# Altium integrated library DSD_Aerobits_RPI4_OLED.IntLib: 62 symbols (part 2 of 2)
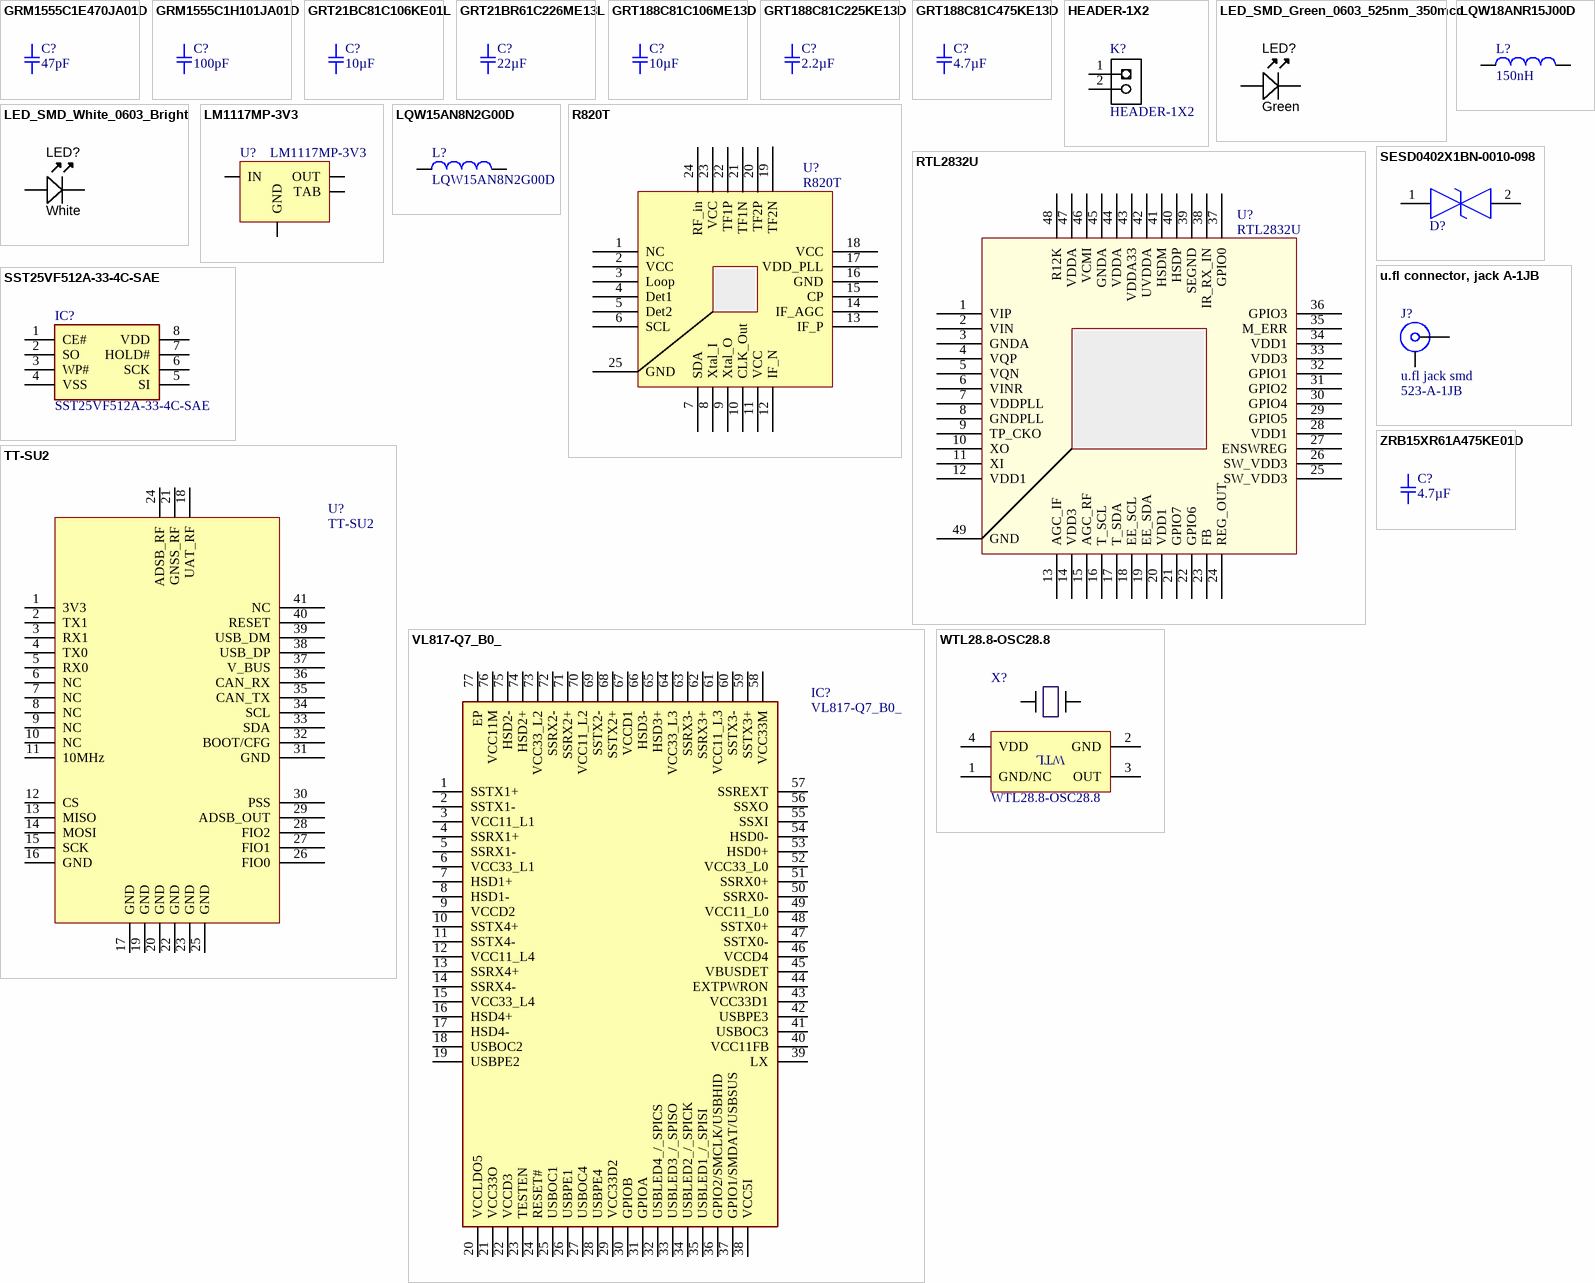
[diagram p2: symbols GRM1555C1E470JA01D to ZRB15XR61A475KE01D]

## u.fl connector, jack A-1JB
designator J?, comment u.fl jack smd  Supplier Part Number 1: 523-A-1JB
Manufacturer 1: Amphenol / Amphenol RF; Manufacturer Part Number 1: A-1JB; Connector Type: AMC Coaxial; Body Style: Straight Jack; Coaxial Termination: Solder; Impedance: 50ohm; Frequency Max: 6GHz; Supplier 1: Mouser; Stock 1: 19506; Pricing 1: 1=0.65, 10=0.596, 50=0.535, 100=0.51, 1000=0.365, 10000=0.351 (USD); Contact Material: Brass; Contact Plating: Gold; ComponentLink1URL: https://datasheet.ciiva.com/22652/689597-22652949.pdf; ComponentLink1Description: https://datasheet.ciiva.com/22652/689597-22652949.pdf; ComponentLink2URL: https://datasheet.ciiva.com/15172/getdatasheetpartid-168895-15172647.pdf; ComponentLink2Description: https://datasheet.ciiva.com/15172/getdatasheetpartid-168895-15172647.pdf; ComponentLink3URL: https://datasheet.ciiva.com/36526/2036357-36526267.pdf; ComponentLink3Description: https://datasheet.ciiva.com/36526/2036357-36526267.pdf; ComponentLink4URL: https://datasheet.ciiva.com/5175/ca-1jb-38743-5175829.pdf; ComponentLink4Description: https://datasheet.ciiva.com/5175/ca-1jb-38743-5175829.pdf; ComponentLink5URL: https://datasheet.ciiva.com/3132/ca-1jb-3132240.pdf; ComponentLink5Description: https://datasheet.ciiva.com/3132/ca-1jb-3132240.pdf; ComponentLink6URL: https://datasheet.ciiva.com/14157/04614608-14157589.pdf; ComponentLink6Description: https://datasheet.ciiva.com/14157/04614608-14157589.pdf; ComponentLink7URL: https://datasheet.ciiva.com/643/ca-1jb-643532.pdf; ComponentLink7Description: https://datasheet.ciiva.com/643/ca-1jb-643532.pdf; ComponentLink8URL: https://datasheet.ciiva.com/14565/70142555-14565783.pdf; ComponentLink8Description: https://datasheet.ciiva.com/14565/70142555-14565783.pdf; ComponentLink9URL: https://datasheet.ciiva.com/643/ca-1jb-643531.pdf; ComponentLink9Description: https://datasheet.ciiva.com/643/ca-1jb-643531.pdf
footprint U.FL jack (U.FL smd jack AMPhenol RF AMC series)
pins: 1, 2

## VL817-Q7_B0_
designator IC?
Integrated Circuit; Manufacturer_Name: VIA; Manufacturer_Part_Number: VL817-Q7(B0); Datasheet Link: https://item.szlcsc.com/210703.html; Height: 0.9mm
footprint QFN40P900X900X90-77N-D
pins: 1 SSTX1+, 2 SSTX1-, 3 VCC11_L1, 4 SSRX1+, 5 SSRX1-, 6 VCC33_L1, 7 HSD1+, 8 HSD1-, 9 VCCD2, 10 SSTX4+, 11 SSTX4-, 12 VCC11_L4, 13 SSRX4+, 14 SSRX4-, 15 VCC33_L4, 16 HSD4+, 17 HSD4-, 18 USBOC2, 19 USBPE2, 20 VCCLDO5, 21 VCC33O, 22 VCCD3, 23 TESTEN, 24 RESET#, 25 USBOC1, 26 USBPE1, 27 USBOC4, 28 USBPE4, 29 VCC33D2, 30 GPIOB, 31 GPIOA, 32 USBLED4_/_SPICS, 33 USBLED3_/_SPISO, 34 USBLED2_/_SPICK, 35 USBLED1_/_SPISI, 36 GPIO2/SMCLK/USBHID, 37 GPIO1/SMDAT/USBSUS, 38 VCC5I, 39 LX, 40 VCC11FB, 41 USBOC3, 42 USBPE3, 43 VCC33D1, 44 EXTPWRON, 45 VBUSDET, 46 VCCD4, 47 SSTX0-, 48 SSTX0+, 49 VCC11_L0, 50 SSRX0-, 51 SSRX0+, 52 VCC33_L0, 53 HSD0+, 54 HSD0-, 55 SSXI, 56 SSXO, 57 SSREXT, 58 VCC33M, 59 SSTX3+, 60 SSTX3-, 61 VCC11_L3, 62 SSRX3+, 63 SSRX3-, 64 VCC33_L3, 65 HSD3+, 66 HSD3-, 67 VCCD1, 68 SSTX2+, 69 SSTX2-, 70 VCC11_L2, 71 SSRX2+, 72 SSRX2-, 73 VCC33_L2, 74 HSD2+, 75 HSD2-, 76 VCC11M, 77 EP

## WTL28.8-OSC28.8
designator X?
footprint WTL28.8-OSC28.8
pins: 1 GND/NC, 2 GND, 3 OUT, 4 VDD, 5, 6
text: WTL

## ZRB15XR61A475KE01D
designator C?, comment 4.7µF
CAP CER 4.7UF 10V X5R 0402; Part Number: ZRB15XR61A475KE01D; Manufacturer: Murata Electronics North America; Factory Stock: 0; Unit Price (USD): 0,28; Minimum Quantity: 1; Tolerance: ±10%; Datasheets: http://search.murata.co.jp/Ceramy/image/img/A01X/G101/ENG/ZRB15XR61A475KE01-01.pdf; Image: //media.digikey.com/Renders/Murata%20Renders/ZRB-SERIES-0402.jpg; Digi-Key Part Number: 490-13252-1-ND; Quantity Available: 23076; @ qty: 0; Packaging: Cut Tape (CT); Series: ZRB; Part Status: Active; Value: 4.7µF; Voltage: 10V; Temperature Coefficient: X5R; Operating Temperature: -55°C ~ 85°C; Features: Derating Recommended, Interposer Termination; Ratings: -; Applications: Acoustic Noise Reduction; Mounting Type: Surface Mount, MLCC; Package / Case: 0402 (1005 Metric); Size / Dimension: 0.039" L x 0.020" W (1.00mm x 0.50mm); Height - Seated (Max): -; Thickness (Max): 0.031" (0.80mm); Lead Spacing: -; Lead Style: -
footprint SMD-0402C
pins: 1, 2